# Altium schematic symbol library LC_SensorNode.SchLib: 34 symbols
Pins are listed as number, name and electrical type; pins without a type are passive.

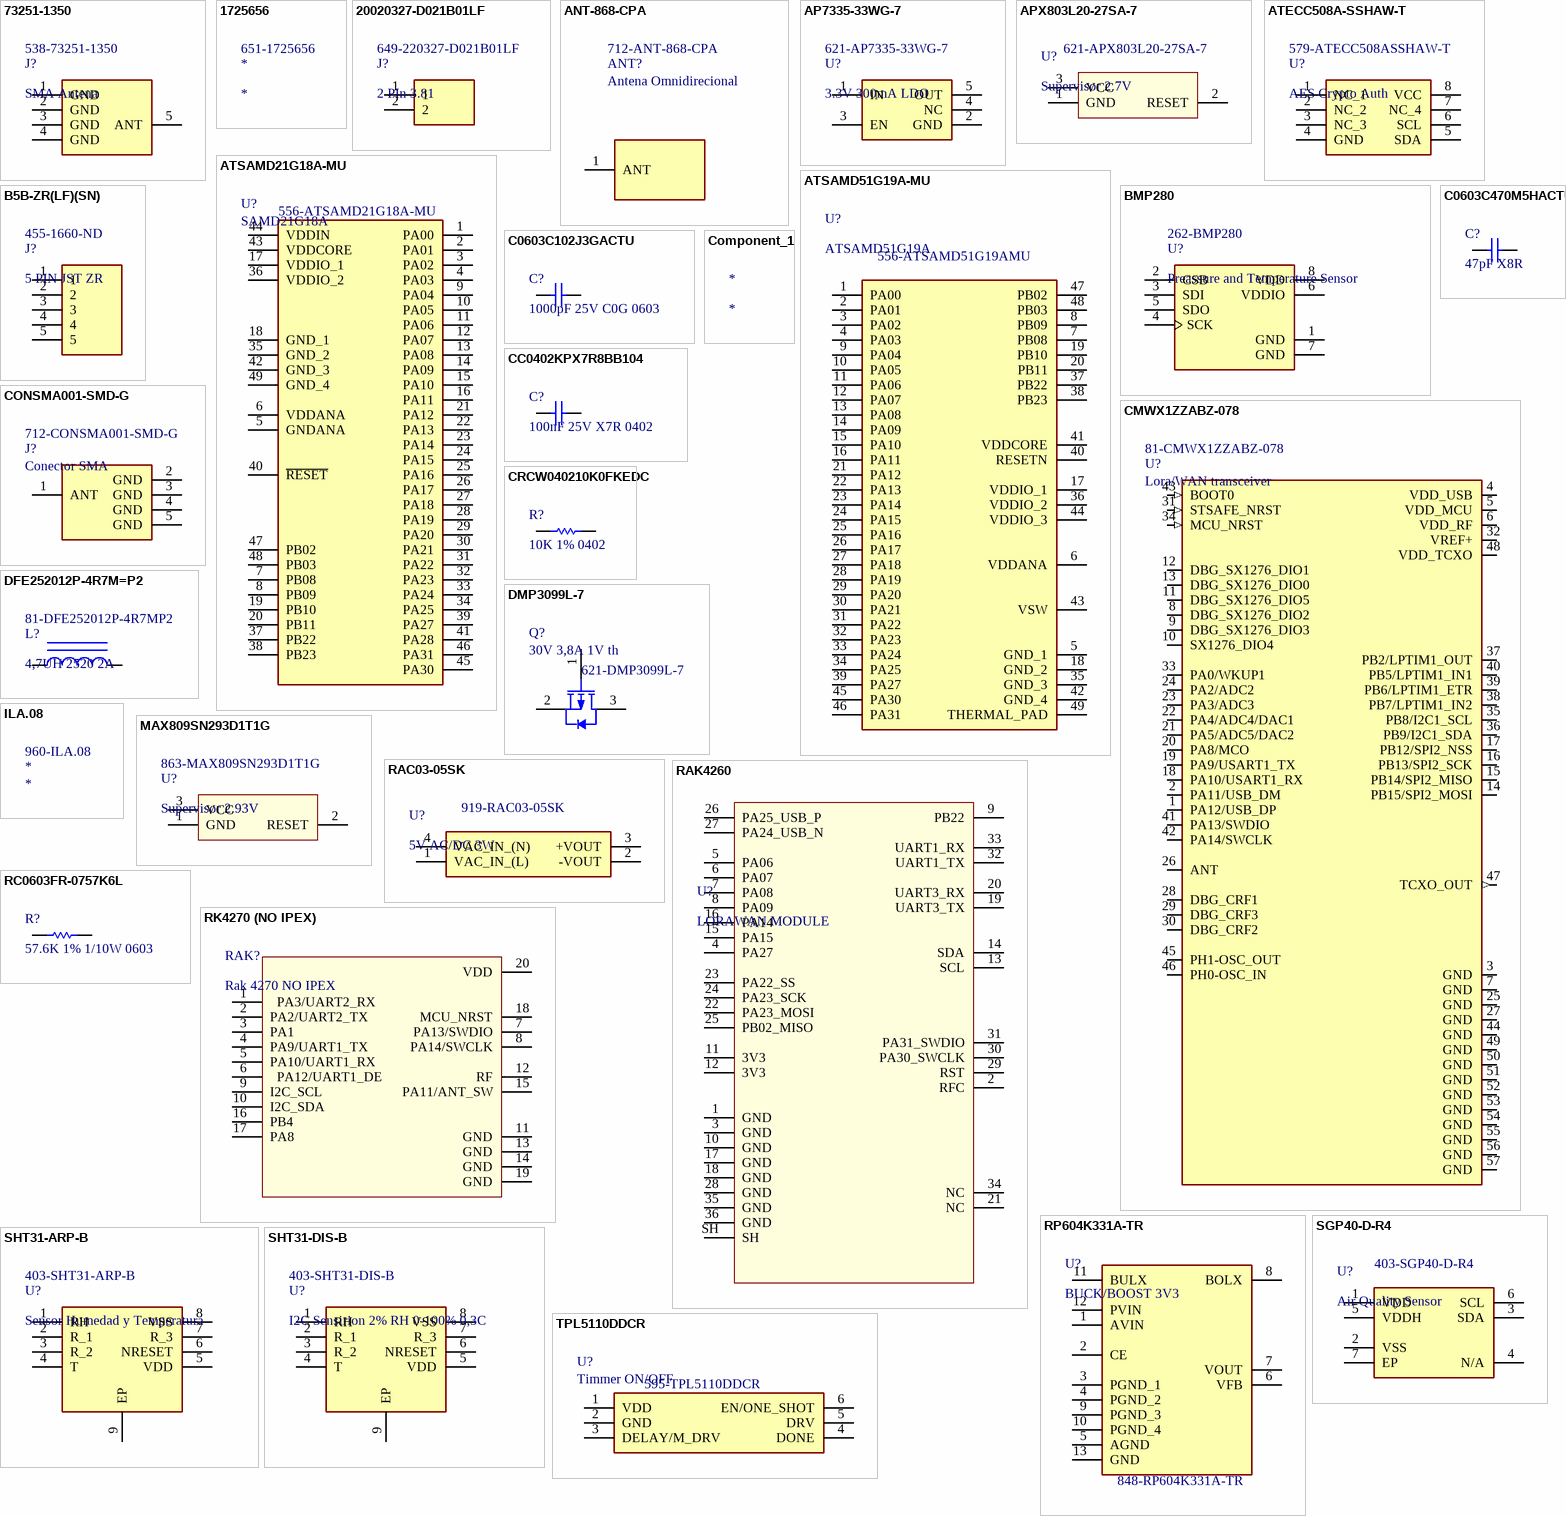
[diagram p0: symbols 73251-1350 to TPL5110DDCR]

## 73251-1350
designator J?, comment SMA Antena  Supplier Part Number 1: 538-73251-1350
MOLEX   73251-1350.   RF/COAXIAL, SMA JACK, STRAIGHT, 50 OHM, SMD; Body Plating: Gold; Body Material: Brass; Impedance: 50R; Connector Type: SMA,Coaxial; Gender: Female; Supplier 1: Mouser; Manufacturer: Molex; Manufacturer Part Number: 73251-1350; RoHS: Yes; Category: RF / Coaxial Connectors; Stock 1: 6932; Pricing 1: 1=3,73000, 10=3,29000, 50=3,29000, 100=2,60000, 500=2,53000, 1000=2,16000, 2500=2,01000, 5000=1,93000, 10000=1,86000 (USD); Case/Package: SMA; Contact Material: Copper; Contact Plating: Gold; Insulation Material: Teflon; Package Quantity: 1600; Packaging: Tray; Termination: Solder; Series: 73251; Orientation: Straight; Length: 6.35mm; Depth: 6.35mm; Radiation Hardening: No; RoHS Compliant: Yes; REACH SVHC: Unknown; Halogen Free: Low Halogen; ComponentLink1URL: https://datasheet.ciiva.com/22652/1443748-22652884.pdf?src-supplier=Element14; ComponentLink1Description: https://datasheet.ciiva.com/22652/1443748-22652884.pdf?src-supplier=Element14; ComponentLink2URL: https://datasheet.ciiva.com/5718/1716114-5718582.pdf?src-supplier=Farnell; ComponentLink2Description: https://datasheet.ciiva.com/5718/1716114-5718582.pdf?src-supplier=Farnell; ComponentLink3URL: https://datasheet.ciiva.com/23673/1763868-23673641.pdf?src-supplier=Newark; ComponentLink3Description: https://datasheet.ciiva.com/23673/1763868-23673641.pdf?src-supplier=Newark; ComponentLink4URL: https://datasheet.ciiva.com/15226/getdatasheetpartid-152891-15226055.pdf?src-supplier=Verical; ComponentLink4Description: https://datasheet.ciiva.com/15226/getdatasheetpartid-152891-15226055.pdf?src-supplier=Verical
footprint 73251-1350
pins: 1 GND, 2 GND, 3 GND, 4 GND, 5 ANT

## 1725656
designator *  Supplier Part Number 1: 651-1725656
PHOENIX CONTACT - 1725656 - Wire-To-Board Terminal Block, 2.54 mm, 2 Ways, 26 AWG, 20 AWG, 0.5 mm², Screw; Voltage Rating: 125V; Number of Contacts: 2; Max Current Rating: 6A; Number of Levels: 1; Max Supply Voltage: 63V; Connector Type: Screw,PCB,Terminal Block; Wire Gauge (Max): 26AWG; Wire Gauge (Min): 20AWG; Pitch: 2.54mm; Stripping Length: 4.5mm; Approvals: UL,CSA,cULus,EAC; Supplier 1: Mouser; Manufacturer: Phoenix Contact; Manufacturer Part Number: 1725656; RoHS: Yes; Category: Terminal Blocks; Stock 1: 10521; Pricing 1: 1=1,73000, 10=1,66000, 50=1,59000, 100=1,54000, 250=1,44000, 500=1,32000, 1000=1,22000, 2500=1,16000, 5000=1,09000, 10000=1,09000 (USD); Mount: Through Hole; Number of Pins: 2; Color: Green; Weight: 0.022575oz; Contact Material: Tin; Housing Color: Green; Housing Material: Polyamide; Insulation Material: Nylon; Termination: Solder; Package Quantity: 50; Packaging: Bulk; Voltage: 125V; Number of Rows: 1; Current Rating: 6A; Number of Positions Per Level: 2; Current: 6A; Number of Positions: 2; Orientation: Straight; Number of Poles: 2; Number of Circuits: 2; Series: MPT; Length: 5.54mm; Width: 12mm; Height: 6.2mm; Depth: 6.2mm; Wire/Cable Gauge: 26AWG; Radiation Hardening: No; Lead Free: Lead Free; Flammability Rating: UL94 V-0; RoHS Compliant: Yes; REACH SVHC: No SVHC; ComponentLink1URL: https://datasheet.ciiva.com/823/1725656-823793.pdf?src-supplier=Digi-Key; ComponentLink1Description: https://datasheet.ciiva.com/823/1725656-823793.pdf?src-supplier=Digi-Key; ComponentLink2URL: https://datasheet.ciiva.com/16071/1725656-16071846.pdf?src-supplier=Onlinecomponents.com; ComponentLink2Description: https://datasheet.ciiva.com/16071/1725656-16071846.pdf?src-supplier=Onlinecomponents.com; ComponentLink3URL: https://datasheet.ciiva.com/15169/getdatasheetpartid-199323-15169849.pdf?src-supplier=Verical; ComponentLink3Description: https://datasheet.ciiva.com/15169/getdatasheetpartid-199323-15169849.pdf?src-supplier=Verical; ComponentLink4URL: https://datasheet.ciiva.com/1120/319957-1120510.pdf?src-supplier=Farnell; ComponentLink4Description: https://datasheet.ciiva.com/1120/319957-1120510.pdf?src-supplier=Farnell; ComponentLink5URL: https://datasheet.ciiva.com/26340/788052-da-01-en-100ntklemme-1725656-250-st-26340907.pdf?src-supplier=Conrad; ComponentLink5Description: https://datasheet.ciiva.com/26340/788052-da-01-en-100ntklemme-1725656-250-st-26340907.pdf?src-supplier=Conrad

## 20020327-D021B01LF
designator J?, comment 2 PIn 3.81  Supplier Part Number 1: 649-220327-D021B01LF
AMPHENOL FCI         20020327-D021B01LF             TERMINAL BLOCK PLUGGABLE, 2 POSITION, 24-16AWG; Manufacturer: Amphenol ICC / FCI; Plating: Steel; Number of Contacts: 2; Current Rating: 10A; Voltage Rating: 300V; Number of Levels: 1; Connector Type: Screw,Terminal Block; Pitch: 3.81mm; Wire Gauge (Max): 24AWG; Wire Gauge (Min): 16AWG; Supplier 1: Mouser; Manufacturer Part Number: 20020327-D021B01LF; RoHS: Yes; Category: Terminal Blocks; Stock 1: 4026; Pricing 1: 1=0,44000, 10=0,38300, 50=0,33900, 100=0,33200, 1000=0,24000, 10000=0,17900 (USD); Mount: Through Hole; Housing Color: Green; Color: Green; Contact Plating: Tin; Contact Material: Brass,Steel,Copper Alloy; Material: Nylon; Housing Material: Thermoplastic; Min Operating Temperature: -40°C; Max Operating Temperature: 115°C; Number of Rows: 1; Termination: Solder; Orientation: Straight; Package Quantity: 1400; Packaging: Bulk; Max Supply Voltage: 300V; Number of Positions: 2; Number of Positions Per Level: 2; Current: 10A; Voltage: 300V; Number of Poles: 2; Contact Type: SCREW; Series: 26-381; Number of Ways: 2; Length: 8.02mm; Wire/Cable Gauge: 16AWG; Depth: 7.4mm; Radiation Hardening: No; REACH SVHC: No SVHC; Lead Free: Lead Free; RoHS Compliant: Yes; ComponentLink1URL: https://datasheet.ciiva.com/11757/0900766b80e53f68-11757695.pdf?src-supplier=RSComponents; ComponentLink1Description: https://datasheet.ciiva.com/11757/0900766b80e53f68-11757695.pdf?src-supplier=RSComponents; ComponentLink2URL: https://datasheet.ciiva.com/823/20020327-823586.pdf?src-supplier=Digi-Key; ComponentLink2Description: https://datasheet.ciiva.com/823/20020327-823586.pdf?src-supplier=Digi-Key; ComponentLink3URL: https://datasheet.ciiva.com/7980/20020327-7980415.pdf?src-supplier=Element14; ComponentLink3Description: https://datasheet.ciiva.com/7980/20020327-7980415.pdf?src-supplier=Element14; ComponentLink4URL: https://datasheet.ciiva.com/9374/20020327-9374156.pdf?src-supplier=Avnet; ComponentLink4Description: https://datasheet.ciiva.com/9374/20020327-9374156.pdf?src-supplier=Avnet; ComponentLink5URL: https://datasheet.ciiva.com/16676/20020327-16676344.pdf?src-supplier=Avnet+Europe; ComponentLink5Description: https://datasheet.ciiva.com/16676/20020327-16676344.pdf?src-supplier=Avnet+Europe
footprint 20020327D021B01LF
pins: 1, 2

## ANT-868-CPA
designator ANT?, comment Antena Omnidirecional  Supplier Part Number 1: 712-ANT-868-CPA
Antenas 868 MHz Directional RHCP Adhesive Ceramic Patch Antenna ISM LPWA; Manufacturer 1: Linx; Manufacturer Part Number 1: ANT-868-CPA; Supplier 1: Mouser; RoHS: No; Category: RF Antennas; Stock 1: 383; Pricing 1: 1=2,92000, 10=2,79000, 25=2,61000, 100=2,51000, 250=2,41000, 500=2,39000 (USD)
footprint ANT868CPA
pins: 1 ANT

## AP7335-33WG-7
designator U?, comment 3.3V 300mA LDO  Supplier Part Number 1: 621-AP7335-33WG-7
LDO Regulator Pos 3.3V 0.3A 5-Pin SOT-25 T/R; Manufacturer: Diodes; Manufacturer Part Number: AP7335-33WG-7; Number of Outputs: 1; Min Input Voltage: 2V; Max Input Voltage: 6V; Output Type: Fixed; Accuracy: 2%; Polarity: Positive; Quiescent Current: 80uA; Dropout Voltage: 150mV; Min Current Limit: 400mA; Power Supply Rejection Ratio (PSRR): 65dB; Supplier 1: Mouser; RoHS: Yes; Category: Voltage Regulators - Linear; Stock 1: 2288; Mount: Surface Mount; Case/Package: SOT-25; Number of Pins: 5; Min Operating Temperature: -40°C; Max Operating Temperature: 85°C; Max Output Current: 300mA; Output Voltage: 3.3V; Packaging: Tape and Reel; Output Current: 300mA; Package Quantity: 3000; Number of Regulators: 1; Radiation Hardening: No; REACH SVHC: No SVHC; ComponentLink1URL: https://datasheet.ciiva.com/26856/getdatasheetpartid-661856-26856385.pdf?src-supplier=Verical; ComponentLink1Description: https://datasheet.ciiva.com/26856/getdatasheetpartid-661856-26856385.pdf?src-supplier=Verical; ComponentLink2URL: https://datasheet.ciiva.com/17365/ap7335-17365717.pdf?src-supplier=Avnet+Europe; ComponentLink2Description: https://datasheet.ciiva.com/17365/ap7335-17365717.pdf?src-supplier=Avnet+Europe
footprint SOT95P285X145-5N
pins: 1 IN, 2 GND, 3 EN, 4 NC, 5 OUT

## APX803L20-27SA-7
designator U?, comment Supervisor 2.7V  Supplier Part Number 1: 621-APX803L20-27SA-7
Circuitos de vigilancia 2.7V, 220ms Reset Ge nerator; Manufacturer: Diodes; Manufacturer Part Number: APX803L20-27SA-7; Reset: Active Low; Number of Voltages Monitored: 1; Reset Timeout: 143ms; Supplier 1: Mouser; RoHS: Yes; Category: Voltage Supervisors; Stock 1: 5390; Mount: Surface Mount; Case/Package: TO-236-3; Min Operating Temperature: -40°C; Max Operating Temperature: 85°C; Type: Simple Reset/Power-On Reset; Packaging: Tape and Reel; Threshold Voltage: 2.7V; RoHS Compliant: Yes; ComponentLink1URL: https://www.diodes.com/assets/Datasheets/APX803L.pdf?src-supplier=Digi-Key; ComponentLink1Description: https://www.diodes.com/assets/Datasheets/APX803L.pdf?src-supplier=Digi-Key
footprint SOT-23-3 (SOT23, 3-Leads, Body 2.92x1.3mm, Pitch 0.95mm)
pins: 1 GND, 2 RESET, 3 VCC

## ATECC508A-SSHAW-T
designator U?, comment AES Crypto Auth  Supplier Part Number 1: 579-ATECC508ASSHAW-T
IC AUTHENTICATION CHIP 8SOIC; Manufacturer: Microchip; Manufacturer Part Number: ATECC508A-SSHAW-T; Supplier 1: Mouser; RoHS: No; Category: EEPROM; Stock 1: 2203; ComponentLink1URL: http://www.microchip.com/mymicrochip/filehandler.aspx?ddocname=en603815&src-supplier=Digi-Key; ComponentLink1Description: http://www.microchip.com/mymicrochip/filehandler.aspx?ddocname=en603815&src-supplier=Digi-Key
footprint SOIC127P600X175-8N
pins: 1 NC_1, 2 NC_2, 3 NC_3, 4 GND, 5 SDA, 6 SCL, 7 NC_4, 8 VCC

## ATSAMD21G18A-MU
designator U?, comment SAMD21G18A  Supplier Part Number 1: 556-ATSAMD21G18A-MU
MICROCHIP - ATSAMD21G18A-MU - ARM MCU, SAM D Series, SAM32 Family SAM D2X Series Microcontrollers, ARM Cortex-M0+, 32bit, 48 MHz; Supplier 1: Mouser; Manufacturer 1: Microchip; Manufacturer Part Number 1: ATSAMD21G18A-MU; RoHS: No; Category: Microcontrollers; Stock 1: 1648; Pricing 1: 1=3,00000, 10=3,00000, 25=2,72000, 100=2,47000, 250=2,47000, 500=2,47000 (USD); ComponentLink1URL: http://www.farnell.com/datasheets/2047956.pdf?src-supplier=Farnell; ComponentLink1Description: http://www.farnell.com/datasheets/2047956.pdf?src-supplier=Farnell; ComponentLink2URL: http://www.farnell.com/datasheets/2047956.pdf?src-supplier=Newark; ComponentLink2Description: http://www.farnell.com/datasheets/2047956.pdf?src-supplier=Newark; ComponentLink3URL: http://www.microchip.com/mymicrochip/filehandler.aspx?ddocname=en605774&src-supplier=Digi-Key; ComponentLink3Description: http://www.microchip.com/mymicrochip/filehandler.aspx?ddocname=en605774&src-supplier=Digi-Key
footprint QFN50P700X700X90-49N-D
pins: 1 PA00, 2 PA01, 3 PA02, 4 PA03, 5 GNDANA, 6 VDDANA, 7 PB08, 8 PB09, 9 PA04, 10 PA05, 11 PA06, 12 PA07, 13 PA08, 14 PA09, 15 PA10, 16 PA11, 17 VDDIO_1, 18 GND_1, 19 PB10, 20 PB11, 21 PA12, 22 PA13, 23 PA14, 24 PA15, 25 PA16, 26 PA17, 27 PA18, 28 PA19, 29 PA20, 30 PA21, 31 PA22, 32 PA23, 33 PA24, 34 PA25, 35 GND_2, 36 VDDIO_2, 37 PB22, 38 PB23, 39 PA27, 40 ~{RESET}, 41 PA28, 42 GND_3, 43 VDDCORE, 44 VDDIN, 45 PA30, 46 PA31, 47 PB02, 48 PB03, 49 GND_4

## ATSAMD51G19A-MU
designator U?, comment ATSAMD51G19A  Supplier Part Number 1: 556-ATSAMD51G19AMU
IC MCU 32BIT 512KB FLASH 48VQFN; Manufacturer: Microchip; Manufacturer Part Number: ATSAMD51G19A-MU; Supplier 1: Mouser; RoHS: No; Category: Microcontrollers; Stock 1: 1027; ComponentLink1URL: http://www.farnell.com/datasheets/2339602.pdf?src-supplier=Farnell; ComponentLink1Description: http://www.farnell.com/datasheets/2339602.pdf?src-supplier=Farnell; ComponentLink2URL: http://www.microchip.com/mymicrochip/filehandler.aspx?ddocname=en599588&src-supplier=Digi-Key; ComponentLink2Description: http://www.microchip.com/mymicrochip/filehandler.aspx?ddocname=en599588&src-supplier=Digi-Key
footprint QFN50P700X700X90-49N-D
pins: 1 PA00, 2 PA01, 3 PA02, 4 PA03, 5 GND_1, 6 VDDANA, 7 PB08, 8 PB09, 9 PA04, 10 PA05, 11 PA06, 12 PA07, 13 PA08, 14 PA09, 15 PA10, 16 PA11, 17 VDDIO_1, 18 GND_2, 19 PB10, 20 PB11, 21 PA12, 22 PA13, 23 PA14, 24 PA15, 25 PA16, 26 PA17, 27 PA18, 28 PA19, 29 PA20, 30 PA21, 31 PA22, 32 PA23, 33 PA24, 34 PA25, 35 GND_3, 36 VDDIO_2, 37 PB22, 38 PB23, 39 PA27, 40 RESETN, 41 VDDCORE, 42 GND_4, 43 VSW, 44 VDDIO_3, 45 PA30, 46 PA31, 47 PB02, 48 PB03, 49 THERMAL_PAD

## B5B-ZR(LF)(SN)
designator J?, comment 5 PIN JST ZR  Supplier Part Number 1: 455-1660-ND
CONN HEADER VERT 5POS 1.5MM; Manufacturer Part Number: B5B-ZR(LF)(SN); Gender: Male; Connector Type: Male Pin; Current Rating: 1A; Number of Positions: 5; Insulation Resistance: 500MR; Contact Resistance: 30mR; Voltage Rating: 50V; Supplier 1: Digi-Key; Manufacturer: JST; RoHS: Yes; Category: Connectors; Stock 1: 124471; Pricing 1: 1=0,26000, 10=0,23900, 100=0,16590, 500=0,14038, 1000=0,11486, 5000=0,10209, 10000=0,09252 (USD); Mount: Through Hole; Contact Material: Brass,Tin; Color: Natural; Contact Plating: Tin,Copper; Housing Material: Polyamide; Housing Color: Beige; Material: Polyamide; Min Operating Temperature: -25°C; Max Operating Temperature: 85°C; Number of Rows: 1; Packaging: Bulk; Termination: Press-Fit; Number of Contacts: 5; Fastening Type: Detent; Orientation: Straight; Max Current Rating: 1A; Max Voltage Rating (AC): 50V; Length: 9mm; Pitch: 1.5mm; Contact Mating Length: 0.094inch; Depth: 3.5mm; Lead Free: Lead Free; ComponentLink1URL: https://datasheet.ciiva.com/26894/getdatasheetpartid-666189-26894482.pdf?src-supplier=Verical; ComponentLink1Description: https://datasheet.ciiva.com/26894/getdatasheetpartid-666189-26894482.pdf?src-supplier=Verical; ComponentLink2URL: https://datasheet.ciiva.com/25616/0900766b81147f94-25616837.pdf?src-supplier=RSComponents; ComponentLink2Description: https://datasheet.ciiva.com/25616/0900766b81147f94-25616837.pdf?src-supplier=RSComponents; ComponentLink3URL: https://datasheet.ciiva.com/11752/0900766b8082f580-11752184.pdf?src-supplier=RSComponents; ComponentLink3Description: https://datasheet.ciiva.com/11752/0900766b8082f580-11752184.pdf?src-supplier=RSComponents; ComponentLink4URL: https://datasheet.ciiva.com/712/ezh-712496.pdf?src-supplier=Digi-Key; ComponentLink4Description: https://datasheet.ciiva.com/712/ezh-712496.pdf?src-supplier=Digi-Key
footprint SHDR5W50P0X150_1X5_900X350X450P
pins: 1, 2, 3, 4, 5

## BMP280
designator U?, comment Preassure and Temperature Sensor  Supplier Part Number 1: 262-BMP280
BMP280 Absolute Barometric Pressure Sensor for Battery Powered Devices 2 x 2.5mm; Manufacturer: Bosch; Output Type: SPI,I2C; Operating Pressure: 15.95PSI; Port Style: No Port; Max Pressure: 290.08PSI; Supplier 1: Mouser; Manufacturer Part Number: BMP280; RoHS: No; Category: Pressure Sensors; Stock 1: 16446; Case/Package: SMD/SMT; Number of Pins: 8; Min Operating Temperature: -40°C; Max Operating Temperature: 85°C; Pressure Type: Absolute; Termination: SMD/SMT; Lead Free: Lead Free; ComponentLink1URL: https://ae-bst.resource.bosch.com/media/_tech/media/datasheets/BST-BMP280-DS001.pdf?src-supplier=Digi-Key; ComponentLink1Description: https://ae-bst.resource.bosch.com/media/_tech/media/datasheets/BST-BMP280-DS001.pdf?src-supplier=Digi-Key
footprint XDCR_BMP280
pins: 1 GND (power), 2 CSB, 3 SDI, 4 SCK, 5 SDO, 6 VDDIO (power), 7 GND (power), 8 VDD (power)

## C0603C102J3GACTU
designator C?, comment 1000pF 25V C0G 0603
KEMET         C0603C102J3GACTU.             CERAMIC CAPACITOR 1000PF 25V, C0G, 5%, 0603; Capacitance: 1nF; Temperature Coefficient: 30ppm/°C; Supplier 1: Mouser; Manufacturer: KEMET; Manufacturer Part Number: C0603C102J3GACTU; RoHS: Yes; Category: Ceramic Capacitors; Stock 1: 42794; Mount: Surface Mount; Case/Package: 0603; Number of Pins: 2; Case Code (Imperial): 0603; Case Code (Metric): 1608; Contact Plating: Tin,Matte; Dielectric Material: Ceramic; Min Operating Temperature: -55°C; Max Operating Temperature: 125°C; Packaging: Tape and Reel; Package Quantity: 1; Tolerance: 5%; Voltage Rating: 25V; Voltage Rating (DC): 25V; Dielectric: C0G; Termination: SMD/SMT; Voltage: 25V; Length: 1.6mm; Height: 0.8mm; Width: 0.031inch; Lead Pitch: 0.7mm; Thickness: 0.034inch; Depth: 0.8mm; Radiation Hardening: No; REACH SVHC: No SVHC; Lead Free: Lead Free; ComponentLink1URL: https://datasheet.ciiva.com/18192/getdatasheetpartid-127803-18192629.pdf?src-supplier=Verical; ComponentLink1Description: https://datasheet.ciiva.com/18192/getdatasheetpartid-127803-18192629.pdf?src-supplier=Verical; ComponentLink2URL: https://datasheet.ciiva.com/7823/f9080b-0402-series-c0g-7823966.pdf?src-supplier=Element14; ComponentLink2Description: https://datasheet.ciiva.com/7823/f9080b-0402-series-c0g-7823966.pdf?src-supplier=Element14; ComponentLink3URL: https://datasheet.ciiva.com/7823/f9080b-0402-series-c0g-7823967.pdf?src-supplier=Element14; ComponentLink3Description: https://datasheet.ciiva.com/7823/f9080b-0402-series-c0g-7823967.pdf?src-supplier=Element14; Supplier Part Number 1: 80-C0603C102J3G
footprint C 0603/1608
pins: 1, 2

## C0603C470M5HACTU
designator C?, comment 47pF X8R
Condensadores de cerámica multicapa (MLCC- SMD/SMT) 50V 47pF X8R 0603 20 % /; Manufacturer: KEMET; Manufacturer Part Number: C0603C470M5HACTU; Supplier 1: Mouser; RoHS: Yes; Category: Ceramic Capacitors; Stock 1: 29354; RoHS Compliant: Yes; Supplier Part Number 1: 80-C0603C470M5HACTU
footprint C 0603/1608
pins: 1, 2

## CC0402KPX7R8BB104
designator C?, comment 100nF 25V X7R 0402
Cap Ceramic 0.1uF 25V X7R 10% SMD 0402 125°C Paper T/R; Manufacturer: Yageo; Manufacturer Part Number: CC0402KPX7R8BB104; Supplier 1: Mouser; RoHS: No; Category: Ceramic Capacitors; Stock 1: 63784; Case/Package: 0402; Voltage Rating (DC): 25V; Dielectric: X7R; Tolerance: 10%; Capacitance: 100nF; Lead Free: Lead Free; Halogen Free: Halogen Free; Supplier Part Number 1: 603-CC0402KPX78BB104
footprint C0402/1005
pins: 1, 2

## CMWX1ZZABZ-078
designator U?, comment Lora/WAN transceiver  Supplier Part Number 1: 81-CMWX1ZZABZ-078
LoRa Wireless Module T/R; Manufacturer 1: Murata; Manufacturer Part Number 1: CMWX1ZZABZ-078; Interface: I2C,SPI,USB,UART; Frequency: 915MHz; Sensitivity: -133dBm; Current - Receiving: 23mA; Current - Transmitting: 106mA; Supplier 1: Mouser; RoHS: No; Category: RF Receivers, Transceivers; Stock 1: 867; Pricing 1: 1=15,75000, 10=14,25000, 25=13,13000, 100=12,00000, 250=11,25000, 500=10,72000 (USD); Mount: Surface Mount; Case/Package: Module; Min Operating Temperature: -40°C; Max Operating Temperature: 85°C; Packaging: Cut Tape; ComponentLink1URL: https://wireless.murata.com/RFM/data/type_abz.pdf?src-supplier=Digi-Key; ComponentLink1Description: https://wireless.murata.com/RFM/data/type_abz.pdf?src-supplier=Digi-Key
footprint XCVR_CMWX1ZZABZ-078 (Footprint not found)
pins: 1 PA12/USB_DP (io), 2 PA11/USB_DM (io), 3 GND (power), 4 VDD_USB (power), 5 VDD_MCU (power), 6 VDD_RF (power), 7 GND (power), 8 DBG_SX1276_DIO2 (io), 9 DBG_SX1276_DIO3 (io), 10 SX1276_DIO4 (io), 11 DBG_SX1276_DIO5 (io), 12 DBG_SX1276_DIO1 (io), 13 DBG_SX1276_DIO0 (io), 14 PB15/SPI2_MOSI (io), 15 PB14/SPI2_MISO (io), 16 PB13/SPI2_SCK (io), 17 PB12/SPI2_NSS (io), 18 PA10/USART1_RX (io), 19 PA9/USART1_TX (io), 20 PA8/MCO (io), 21 PA5/ADC5/DAC2 (io), 22 PA4/ADC4/DAC1 (io), 23 PA3/ADC3 (io), 24 PA2/ADC2 (io), 25 GND (power), 26 ANT (io), 27 GND (power), 28 DBG_CRF1 (io), 29 DBG_CRF3 (io), 30 DBG_CRF2 (io), 31 STSAFE_NRST (in), 32 VREF+ (power), 33 PA0/WKUP1 (io), 34 MCU_NRST (in), 35 PB8/I2C1_SCL (io), 36 PB9/I2C1_SDA (io), 37 PB2/LPTIM1_OUT (io), 38 PB7/LPTIM1_IN2 (io), 39 PB6/LPTIM1_ETR (io), 40 PB5/LPTIM1_IN1 (io), 41 PA13/SWDIO (io), 42 PA14/SWCLK (io), 43 BOOT0 (in), 44 GND (power), 45 PH1-OSC_OUT (io), 46 PH0-OSC_IN (io), 47 TCXO_OUT (out), 48 VDD_TCXO (power), 49 GND (power), 50 GND (power), 51 GND (power), 52 GND (power), 53 GND (power), 54 GND (power), 55 GND (power), 56 GND (power), 57 GND (power)

## Component_1
designator *

## CONSMA001-SMD-G
designator J?, comment Conector SMA  Supplier Part Number 1: 712-CONSMA001-SMD-G
50 Ohm Gold Plated Female PCB Mount SMA Connector; Manufacturer 1: Linx; Manufacturer Part Number 1: CONSMA001-SMD-G; Dielectric Material: PTFE; Body Material: Brass; Impedance: 50R; Connector Type: SMA,Socket; Supplier 1: Mouser; RoHS: Yes; Category: RF / Coaxial Connectors; Stock 1: 9215; Pricing 1: 1=3,20000, 10=3,04000, 25=2,89000, 100=2,76000, 250=2,64000, 500=2,39000 (USD); Mount: Surface Mount; Case/Package: SMA; Contact Plating: Gold; Contact Material: Copper; Body Plating: Gold; Housing Color: Gold; Shell Plating: Gold; Plating: Gold; Min Operating Temperature: -65°C; Max Operating Temperature: 165°C; Package Quantity: 100; Packaging: Bulk; Gender: Female; Fastening Type: Threaded; Orientation: Vertical; Termination: Solder; Lead Free: Lead Free; ComponentLink1URL: https://datasheet.ciiva.com/24094/consma001-smd-21851-24094406.pdf?src-supplier=Mouser; ComponentLink1Description: https://datasheet.ciiva.com/24094/consma001-smd-21851-24094406.pdf?src-supplier=Mouser; ComponentLink2URL: https://datasheet.ciiva.com/29191/consma001-smd-g-29191144.pdf?src-supplier=Digi-Key; ComponentLink2Description: https://datasheet.ciiva.com/29191/consma001-smd-g-29191144.pdf?src-supplier=Digi-Key
footprint CONSMA001-SMD-G
pins: 1 ANT, 2 GND, 3 GND, 4 GND, 5 GND

## CRCW040210K0FKEDC
designator R?, comment 10K 1% 0402
D10/CRCW0402-C 100 10K 1% ET7; Manufacturer: Vishay; Manufacturer Part Number: CRCW040210K0FKEDC; Temperature Coefficient: 100ppm/°C; Power Rating: 62.5mW; Resistance: 10kR; Supplier 1: Mouser; RoHS: Yes; Category: Resistors; Stock 1: 1262468; Mount: Surface Mount; Case/Package: Molded; Contact Plating: Tin; Min Operating Temperature: -55°C; Max Operating Temperature: 155°C; Termination: Wraparound; Tolerance: 1%; Resistor Type: Thick Film; Length: 1mm; Lead Free: Lead Free; ComponentLink1URL: http://www.farnell.com/datasheets/2618784.pdf?src-supplier=Farnell; ComponentLink1Description: http://www.farnell.com/datasheets/2618784.pdf?src-supplier=Farnell; ComponentLink2URL: http://www.farnell.com/datasheets/2618784.pdf?src-supplier=Element14; ComponentLink2Description: http://www.farnell.com/datasheets/2618784.pdf?src-supplier=Element14; ComponentLink3URL: http://www.farnell.com/datasheets/2618784.pdf?src-supplier=Newark; ComponentLink3Description: http://www.farnell.com/datasheets/2618784.pdf?src-supplier=Newark; ComponentLink4URL: http://www.vishay.com/docs/28773/crcwce3.pdf?src-supplier=Digi-Key; ComponentLink4Description: http://www.vishay.com/docs/28773/crcwce3.pdf?src-supplier=Digi-Key; ComponentLink5URL: http://www.vishay.com/docs/20035/dcrcwe3.pdf?src-supplier=Avnet; ComponentLink5Description: http://www.vishay.com/docs/20035/dcrcwe3.pdf?src-supplier=Avnet; Supplier Part Number 1: 71-CRCW040210K0FKEDC
footprint R0402/1005
pins: 1, 2

## DFE252012P-4R7M=P2
designator L?, comment 4,7UH 2520 2A  Supplier Part Number 1: 81-DFE252012P-4R7MP2
FIXED IND 4.7UH 2A 200 MOHM SMD; Manufacturer: Murata; Manufacturer Part Number: DFE252012P-4R7M=P2; Core Material: Ferrite; Shielding: Shielded; DC Resistance (DCR): 200mR; Test Frequency: 1MHz; Max DC Current: 1.4A; Tolerance: 20%; Supplier 1: Mouser; RoHS: Yes; Category: Fixed Inductors; Stock 1: 343; Mount: Surface Mount; Case/Package: 1008; Case Code (Imperial): 1008; Case Code (Metric): 2520; Min Operating Temperature: -40°C; Max Operating Temperature: 125°C; Inductance: 4.7uH; Packaging: Tape and Reel; Resistor Type: Wirewound,Metal Alloy; Current Rating: 2A; Length: 0.098inch; Width: 0.079inch; Height - Seated (Max): 0.047inch; Depth: 2mm; ComponentLink1URL: http://www.farnell.com/datasheets/2550138.pdf?src-supplier=Farnell; ComponentLink1Description: http://www.farnell.com/datasheets/2550138.pdf?src-supplier=Farnell; ComponentLink2URL: http://www.toko.co.jp/products/pdf/inductors/dfe252012p.pdf?src-supplier=Avnet; ComponentLink2Description: http://www.toko.co.jp/products/pdf/inductors/dfe252012p.pdf?src-supplier=Avnet; ComponentLink3URL: http://www.farnell.com/datasheets/2550138.pdf?src-supplier=Newark; ComponentLink3Description: http://www.farnell.com/datasheets/2550138.pdf?src-supplier=Newark; ComponentLink4URL: http://www.murata.com/~/media/webrenewal/products/inductor/chip/tokoproducts/wirewoundmetalalloychiptype/m_dfe252012p.ashx?src-supplier=Digi-Key; ComponentLink4Description: http://www.murata.com/~/media/webrenewal/products/inductor/chip/tokoproducts/wirewoundmetalalloychiptype/m_dfe252012p.ashx?src-supplier=Digi-Key; ComponentLink5URL: https://www.murata.com/~/media/webrenewal/products/inductor/chip/tokoproducts/wirewoundmetalalloychiptype/m_dfe252012p.ashx?src-supplier=Digi-Key; ComponentLink5Description: https://www.murata.com/~/media/webrenewal/products/inductor/chip/tokoproducts/wirewoundmetalalloychiptype/m_dfe252012p.ashx?src-supplier=Digi-Key
footprint DFE2HCAH1R0MJ0L
pins: 1, 2

## DMP3099L-7
designator Q?, comment 30V 3,8A 1V th  Supplier Part Number 1: 621-DMP3099L-7
DIODES INC. - DMP3099L-7 - Power MOSFET, P Channel, 30 V, 3.8 A, 0.065 ohm, SOT-23, Surface Mount; Rds On Max: 65mR; Input Capacitance: 563pF; Drain to Source Voltage (Vdss): -30V; Continuous Drain Current (ID): 3.8A; Max Power Dissipation: 1.08W; Element Configuration: Single; Gate to Source Voltage (Vgs): 20V; Number of Channels: 1; Rise Time: 5ns; Turn-On Delay Time: 4.8ns; Turn-Off Delay Time: 31ns; Fall Time: 15ns; Threshold Voltage: -2.1V; Supplier 1: Mouser; Manufacturer 1: Diodes; Manufacturer Part Number 1: DMP3099L-7; RoHS: Yes; Category: MOSFETs; Stock 1: 268217; Pricing 1: 1=0,33000, 10=0,21000, 100=0,11500, 500=0,09000, 1000=0,06900, 3000=0,05400 (USD); Mount: Surface Mount; Case/Package: SOT-23; Number of Pins: 3; Weight: 0.000282oz; Contact Plating: Tin,Matte; Min Operating Temperature: -55°C; Max Operating Temperature: 150°C; Package Quantity: 3000; Packaging: Tape and Reel; Drain to Source Resistance: 65mR; Length: 3mm; Height: 1.1mm; Width: 1.4mm; Radiation Hardening: No; REACH SVHC: No SVHC; Lead Free: Lead Free; ComponentLink1URL: http://www.mouser.com/ds/2/115/DMP3099L-266220.pdf?src-supplier=Mouser; ComponentLink1Description: http://www.mouser.com/ds/2/115/DMP3099L-266220.pdf?src-supplier=Mouser; ComponentLink2URL: http://www.alliedelec.com/m/d/a7453f83181edfde31570147b9d1ef2f.pdf?src-supplier=Allied+Electronics; ComponentLink2Description: http://www.alliedelec.com/m/d/a7453f83181edfde31570147b9d1ef2f.pdf?src-supplier=Allied+Electronics; ComponentLink3URL: http://www.farnell.com/datasheets/2040103.pdf?src-supplier=Farnell; ComponentLink3Description: http://www.farnell.com/datasheets/2040103.pdf?src-supplier=Farnell; ComponentLink4URL: http://www.farnell.com/datasheets/2040103.pdf?src-supplier=Newark; ComponentLink4Description: http://www.farnell.com/datasheets/2040103.pdf?src-supplier=Newark; ComponentLink5URL: http://www.diodes.com/datasheets/DMP3099L.pdf?src-supplier=Avnet; ComponentLink5Description: http://www.diodes.com/datasheets/DMP3099L.pdf?src-supplier=Avnet; ComponentLink6URL: http://www.diodes.com/datasheets/DMP3099L.pdf?src-supplier=Avnet+Asia; ComponentLink6Description: http://www.diodes.com/datasheets/DMP3099L.pdf?src-supplier=Avnet+Asia; ComponentLink7URL: https://www.diodes.com/assets/Datasheets/DMP3099L.pdf?src-supplier=Digi-Key; ComponentLink7Description: https://www.diodes.com/assets/Datasheets/DMP3099L.pdf?src-supplier=Digi-Key; ComponentLink8URL: http://www.farnell.com/datasheets/2040103.pdf?src-supplier=Element14; ComponentLink8Description: http://www.farnell.com/datasheets/2040103.pdf?src-supplier=Element14; ComponentLink9URL: http://www.diodes.com/datasheets/DMP3099L.pdf?src-supplier=Digi-Key; ComponentLink9Description: http://www.diodes.com/datasheets/DMP3099L.pdf?src-supplier=Digi-Key
footprint SOT96P240X120-3N
pins: 1 G, 2 S, 3 D

## ILA.08
designator *  Supplier Part Number 1: 960-ILA.08
5*3*0.5mm ILA.08 868MHz Ceramic Loop Antenna, NCNR, Packaging: Tape and Reel, Dimensions: 5*3*0.5mm; Manufacturer 1: Taoglas; Number of Bands: 1; Return Loss: -10dB; Max Power Dissipation: 10W; Supplier 1: Mouser; Manufacturer Part Number 1: ILA.08; RoHS: No; Category: RF Antennas; Stock 1: 72; Pricing 1: 1=5,09000, 100=4,69000, 500=3,95000, 1000=3,21000, 5000=1,59000 (USD); Mount: Surface Mount; Packaging: Cut Tape; Termination: Solder; ComponentLink1URL: http://www.farnell.com/datasheets/2647030.pdf?src-supplier=Farnell; ComponentLink1Description: http://www.farnell.com/datasheets/2647030.pdf?src-supplier=Farnell; ComponentLink2URL: http://cdn.taoglas.com/datasheets/ILA.08.pdf?src-supplier=Digi-Key; ComponentLink2Description: http://cdn.taoglas.com/datasheets/ILA.08.pdf?src-supplier=Digi-Key; ComponentLink3URL: http://www.farnell.com/datasheets/2647030.pdf?src-supplier=Newark; ComponentLink3Description: http://www.farnell.com/datasheets/2647030.pdf?src-supplier=Newark

## MAX809SN293D1T1G
designator U?, comment Supervisor 2.93V  Supplier Part Number 1: 863-MAX809SN293D1T1G
Processor Supervisor 2.93V 1.2V to 4.9V 3-Pin SOT-23 T/R; Manufacturer: ON Semiconductor; Manufacturer Part Number: MAX809SN293D1T1G; Max Supply Voltage: 5.5V; Watchdog Timer: No; Max Reset Threshold Voltage: 2.96V; Min Reset Threshold Voltage: 2.89V; Nominal Supply Current: 2.5uA; Number of Voltages Monitored: 1; Operating Supply Current: 800nA; Reset: Active Low; Reset Timeout: 1ms; Output Type: PUSH-PULL; Output: TOTEM-POLE; Supplier 1: Mouser; RoHS: Yes; Category: Voltage Supervisors; Stock 1: 874; Mount: Surface Mount; Case/Package: SOT-23; Number of Pins: 3; Min Operating Temperature: -40°C; Max Operating Temperature: 105°C; Min Supply Voltage: 1.2V; Package Quantity: 3000; Packaging: Tape and Reel; Overvoltage Threshold: 2.96V; Undervoltage Threshold: 2.93V; Threshold Voltage: 2.93V; Number of Elements: 1; Type: Simple Reset/Power-On Reset; Supply Current: 2.5uA; Length: 3.04mm; Width: 1.4mm; Height: 1.01mm; Radiation Hardening: No; REACH SVHC: No SVHC; Lead Free: Lead Free; Halogen Free: Halogen Free; RoHS Compliant: Yes; ComponentLink1URL: https://datasheet.ciiva.com/6600/max809s-d-6600201.pdf?src-supplier=Digi-Key; ComponentLink1Description: https://datasheet.ciiva.com/6600/max809s-d-6600201.pdf?src-supplier=Digi-Key; ComponentLink2URL: https://datasheet.ciiva.com/6600/max809s-d-6600202.pdf?src-supplier=Digi-Key; ComponentLink2Description: https://datasheet.ciiva.com/6600/max809s-d-6600202.pdf?src-supplier=Digi-Key; ComponentLink3URL: https://datasheet.ciiva.com/6600/max809s-d-6600203.pdf?src-supplier=Digi-Key; ComponentLink3Description: https://datasheet.ciiva.com/6600/max809s-d-6600203.pdf?src-supplier=Digi-Key; ComponentLink4URL: https://datasheet.ciiva.com/8138/max809s-d-8138347.pdf?src-supplier=Avnet; ComponentLink4Description: https://datasheet.ciiva.com/8138/max809s-d-8138347.pdf?src-supplier=Avnet; ComponentLink5URL: https://datasheet.ciiva.com/26073/max809s-d-26073901.pdf?src-supplier=Avnet+Europe; ComponentLink5Description: https://datasheet.ciiva.com/26073/max809s-d-26073901.pdf?src-supplier=Avnet+Europe
footprint SOT-23-3 (SOT23, 3-Leads, Body 2.92x1.3mm, Pitch 0.95mm)
pins: 1 GND, 2 RESET, 3 VCC

## RAC03-05SK
designator U?, comment 5V AC/DC 3W  Supplier Part Number 1: 919-RAC03-05SK
CONN HEADER VERT 5POS 1.5MM; Manufacturer: Recom; Manufacturer Part Number: RAC03-05SK; Description: 3W AC/DC-Converter 'POWERLINE' 3kV reg; Gender: Male; Connector Type: Male Pin; Current Rating: 1A; Number of Positions: 5; Insulation Resistance: 500MR; Contact Resistance: 30mR; Voltage Rating: 50V; Supplier 1: Mouser; RoHS: Yes; Category: Voltage Regulators - Switching; Stock 1: 1214; Pricing 1: 1=6,75000, 10=6,57000, 50=6,00000, 100=5,81000, 1000=5,24000, 10000=5,24000 (USD); Supplier 2: Digi-Key; Stock 2: 124471; Pricing 2: 1=0,26000, 10=0,23900, 100=0,16590, 500=0,14038, 1000=0,11486, 5000=0,10209, 10000=0,09252 (USD); Mount: Through Hole; Contact Material: Brass,Tin; Color: Natural; Contact Plating: Tin,Copper; Housing Material: Polyamide; Housing Color: Beige; Material: Polyamide; Min Operating Temperature: -25°C; Max Operating Temperature: 85°C; Number of Rows: 1; Packaging: Bulk; Termination: Press-Fit; Number of Contacts: 5; Fastening Type: Detent; Orientation: Straight; Max Current Rating: 1A; Max Voltage Rating (AC): 50V; Length: 9mm; Pitch: 1.5mm; Contact Mating Length: 0.094inch; Depth: 3.5mm; Lead Free: Lead Free; ComponentLink1URL: https://datasheet.ciiva.com/26894/getdatasheetpartid-666189-26894482.pdf?src-supplier=Verical; ComponentLink1Description: https://datasheet.ciiva.com/26894/getdatasheetpartid-666189-26894482.pdf?src-supplier=Verical; ComponentLink2URL: https://datasheet.ciiva.com/25616/0900766b81147f94-25616837.pdf?src-supplier=RSComponents; ComponentLink2Description: https://datasheet.ciiva.com/25616/0900766b81147f94-25616837.pdf?src-supplier=RSComponents; ComponentLink3URL: https://datasheet.ciiva.com/11752/0900766b8082f580-11752184.pdf?src-supplier=RSComponents; ComponentLink3Description: https://datasheet.ciiva.com/11752/0900766b8082f580-11752184.pdf?src-supplier=RSComponents; ComponentLink4URL: https://datasheet.ciiva.com/712/ezh-712496.pdf?src-supplier=Digi-Key; ComponentLink4Description: https://datasheet.ciiva.com/712/ezh-712496.pdf?src-supplier=Digi-Key
footprint RAC0305SK
pins: 1 VAC_IN_(L), 2 -VOUT, 3 +VOUT, 4 VAC_IN_(N)

## RAK4260
designator U?, comment LORAWAN MODULE
The RAK4260 LPWAN Module is based on Microchip's ATSAMR34J18B. It is a SiP device integrating a 32-bit ARM Cortex -M0+ MCU with a LoRa Transceiver in a compact surface mount package.
footprint RAK4260
pins: 1 GND, 2 RFC, 3 GND, 4 PA27, 5 PA06, 6 PA07, 7 PA08, 8 PA09, 9 PB22, 10 GND, 11 3V3, 12 3V3, 13 SCL, 14 SDA, 15 PA15, 16 PA14, 17 GND, 18 GND, 19 UART3_TX, 20 UART3_RX, 21 NC, 22 PA23_MOSI, 23 PA22_SS, 24 PA23_SCK, 25 PB02_MISO, 26 PA25_USB_P, 27 PA24_USB_N, 28 GND, 29 RST, 30 PA30_SWCLK, 31 PA31_SWDIO, 32 UART1_TX, 33 UART1_RX, 34 NC, 35 GND, 36 GND, SH

## RC0603FR-0757K6L
designator R?, comment 57.6K 1% 1/10W 0603
RES SMD 57.6K OHM 1% 1/10W 0603; Manufacturer: Yageo; Manufacturer Part Number: RC0603FR-0757K6L; Temperature Coefficient: 100ppm/°C; Resistance: 57.6kR; Voltage Rating (DC): 50V; Power Rating: 100mW; Supplier 1: Mouser; RoHS: Yes; Category: Chip SMD Resistors; Stock 1: 50778; Case/Package: 0603; Contact Plating: Tin,Matte; Case Code (Imperial): 0603; Case Code (Metric): 1608; Min Operating Temperature: -55°C; Max Operating Temperature: 155°C; Resistor Type: Thick Film; Tolerance: 1%; Termination: SMD/SMT; Packaging: Tape and Reel; Voltage Rating: 50V; Length: 1.6mm; Height: 0.45mm; Depth: 0.8mm; Width: 0.8mm; Lead Free: Lead Free; Military Standard: Not; ComponentLink1URL: https://datasheet.ciiva.com/28398/pyu-rc0603-51-rohs-l-4-28398246.pdf?src-supplier=Avnet+Europe; ComponentLink1Description: https://datasheet.ciiva.com/28398/pyu-rc0603-51-rohs-l-4-28398246.pdf?src-supplier=Avnet+Europe; ComponentLink2URL: https://datasheet.ciiva.com/12558/rc0603-272842-12558648.pdf?src-supplier=Mouser; ComponentLink2Description: https://datasheet.ciiva.com/12558/rc0603-272842-12558648.pdf?src-supplier=Mouser; ComponentLink3URL: https://datasheet.ciiva.com/8888/pyu-rc0603-51-rohs-l-4-8888687.pdf?src-supplier=Avnet; ComponentLink3Description: https://datasheet.ciiva.com/8888/pyu-rc0603-51-rohs-l-4-8888687.pdf?src-supplier=Avnet; Supplier Part Number 1: 603-RC0603FR-0757K6L
footprint R 0603/1608
pins: 1, 2

## RK4270 (NO IPEX)
designator RAK?, comment Rak 4270 NO IPEX
footprint RK4270
pins: 1   PA3/UART2_RX, 2 PA2/UART2_TX, 3 PA1, 4 PA9/UART1_TX, 5 PA10/UART1_RX, 6   PA12/UART1_DE, 7   PA13/SWDIO, 8 PA14/SWCLK, 9 I2C_SCL, 10 I2C_SDA, 11 GND, 12 RF, 13 GND, 14 GND, 15 PA11/ANT_SW, 16 PB4, 17 PA8, 18   MCU_NRST, 19   GND, 20 VDD

## RP604K331A-TR
designator U?, comment BUCK/BOOST 3V3  Supplier Part Number 1: 848-RP604K331A-TR
Dcdc Converter Ultra-low Quiesce; Manufacturer: Ricoh; Manufacturer Part Number: RP604K331A-TR; Supplier 1: Mouser; RoHS: No; Category: Voltage Regulators - Switching; Stock 1: 645
footprint SON50P270X300X60-13N
pins: 1 AVIN, 2 CE, 3 PGND_1, 4 PGND_2, 5 AGND, 6 VFB, 7 VOUT, 8 BOLX, 9 PGND_3, 10 PGND_4, 11 BULX, 12 PVIN, 13 GND

## SGP40-D-R4
designator U?, comment Air Quality Sensor  Supplier Part Number 1: 403-SGP40-D-R4
Manufacturer: Sensirion; Manufacturer Part Number: SGP40-D-R4; Supplier 1: Mouser; RoHS: No; Stock 1: 87
footprint SON80P244X244X95-7N
pins: 1 VDD, 2 VSS, 3 SDA, 4 N/A, 5 VDDH, 6 SCL, 7 EP

## SHT31-ARP-B
designator U?, comment Sensor Humedad y Temperatura  Supplier Part Number 1: 403-SHT31-ARP-B
SHT3x Series 5.5 V ±2%RH 0 to 100% Temperature and Humidity Sensor - DFN-8; Manufacturer: Sensirion; Manufacturer Part Number: SHT31-ARP-B; Output Type: Analog Voltage; Accuracy: 2%; Response Time: 8s; Operating Supply Voltage: 3.3V; Min Supply Voltage: 2.4V; Max Supply Voltage: 5.5V; Resolution: 14b; Supplier 1: Mouser; RoHS: Yes; Category: Sensors; Mount: Surface Mount; Case/Package: DFN; Number of Pins: 8; Min Operating Temperature: -40°C; Max Operating Temperature: 125°C; Sensor Type: Temperature; Packaging: Cut Tape; Length: 2.6mm; Height: 1mm; Width: 2.6mm; Lead Free: Lead Free; REACH SVHC: No SVHC; ComponentLink1URL: http://www.farnell.com/datasheets/2616460.pdf?src-supplier=Farnell; ComponentLink1Description: http://www.farnell.com/datasheets/2616460.pdf?src-supplier=Farnell; ComponentLink2URL: https://media.digikey.com/pdf/Data%20Sheets/Sensirion%20PDFs/HT_DS_SHT3x_ARP_V3.pdf?src-supplier=Digi-Key; ComponentLink2Description: https://media.digikey.com/pdf/Data%20Sheets/Sensirion%20PDFs/HT_DS_SHT3x_ARP_V3.pdf?src-supplier=Digi-Key; ComponentLink3URL: https://media.digikey.com/pdf/Data%20Sheets/Sensirion%20PDFs/Infoletter184101SHT3x_ARP_DatasheetUpdate.pdf?src-supplier=Digi-Key; ComponentLink3Description: https://media.digikey.com/pdf/Data%20Sheets/Sensirion%20PDFs/Infoletter184101SHT3x_ARP_DatasheetUpdate.pdf?src-supplier=Digi-Key; ComponentLink4URL: http://www.farnell.com/datasheets/1905460.pdf?src-supplier=Farnell; ComponentLink4Description: http://www.farnell.com/datasheets/1905460.pdf?src-supplier=Farnell; ComponentLink5URL: http://www.farnell.com/datasheets/1905460.pdf?src-supplier=Element14; ComponentLink5Description: http://www.farnell.com/datasheets/1905460.pdf?src-supplier=Element14; ComponentLink6URL: https://www.sensirion.com/fileadmin/user_upload/customers/sensirion/Dokumente/2_Humidity_Sensors/Sensirion_Humidity_Sensors_Testing_Guide_V1.2.pdf?src-supplier=Digi-Key; ComponentLink6Description: https://www.sensirion.com/fileadmin/user_upload/customers/sensirion/Dokumente/2_Humidity_Sensors/Sensirion_Humidity_Sensors_Testing_Guide_V1.2.pdf?src-supplier=Digi-Key
footprint SON50P250X250X100-9N-D
pins: 1 RH, 2 R_1, 3 R_2, 4 T, 5 VDD, 6 NRESET, 7 R_3, 8 VSS, 9 EP

## SHT31-DIS-B
designator U?, comment I2C Sensirion 2% RH 0-100% 0,3C  Supplier Part Number 1: 403-SHT31-DIS-B
SENSOR HUMID/TEMP 5V I2C 2% SMD; Manufacturer Part Number: SHT31-DIS-B; Min Supply Voltage: 2.4V; Max Supply Voltage: 5.5V; Sensor Type: Temperature; Output Type: I2C,Digital; Response Time: 8s; Operating Supply Voltage: 3.3V; Supplier 1: Mouser; Manufacturer: Sensirion; RoHS: Yes; Category: Temperature and Humidity Sensors; Mount: Surface Mount; Case/Package: DFN; Number of Pins: 8; Min Operating Temperature: -40°C; Max Operating Temperature: 125°C; Packaging: Cut Tape; Interface: I2C; Accuracy: 2%; Length: 2.6mm; Height: 1mm; Width: 2.6mm; REACH SVHC: No SVHC; Lead Free: Lead Free; ComponentLink1URL: http://uk.rs-online.com/webdocs/13dd/0900766b813ddc9f.pdf?src-supplier=RSComponents; ComponentLink1Description: http://uk.rs-online.com/webdocs/13dd/0900766b813ddc9f.pdf?src-supplier=RSComponents; ComponentLink2URL: http://www.farnell.com/datasheets/2756487.pdf?src-supplier=Farnell; ComponentLink2Description: http://www.farnell.com/datasheets/2756487.pdf?src-supplier=Farnell; ComponentLink3URL: http://www.farnell.com/datasheets/2646599.pdf?src-supplier=Farnell; ComponentLink3Description: http://www.farnell.com/datasheets/2646599.pdf?src-supplier=Farnell; ComponentLink4URL: http://www.farnell.com/datasheets/1905459.pdf?src-supplier=Element14; ComponentLink4Description: http://www.farnell.com/datasheets/1905459.pdf?src-supplier=Element14; ComponentLink5URL: https://www.sensirion.com/file/datasheet_filter-membrane?src-supplier=Digi-Key; ComponentLink5Description: https://www.sensirion.com/file/datasheet_filter-membrane?src-supplier=Digi-Key
footprint SON50P250X250X100-9N-D
pins: 1 RH, 2 R_1, 3 R_2, 4 T, 5 VDD, 6 NRESET, 7 R_3, 8 VSS, 9 EP

## TPL5110DDCR
designator U?, comment Timmer ON/OFF  Supplier Part Number 1: 595-TPL5110DDCR
IC TIMER MOS DRIVER/PWR ON 6-SOT; Manufacturer 1: Texas Instruments; Manufacturer Part Number 1: TPL5110DDCR; Quiescent Current: 35nA; Max Supply Voltage: 5.5V; Min Supply Voltage: 1.8V; Supplier 1: Mouser; RoHS: Yes; Category: Clock and Timing; Stock 1: 4744; Pricing 1: 1=0,90000, 10=0,73800, 100=0,56000, 250=0,56000, 500=0,47600, 1000=0,38100 (USD); Mount: Surface Mount; Case/Package: SOT-23-6; Weight: 0.00127oz; Min Operating Temperature: -40°C; Max Operating Temperature: 105°C; Packaging: Tape and Reel; Operating Supply Current: 35nA; Package Quantity: 3000; Length: 3.05mm; Height: 1.1mm; Width: 1.75mm; Lead Free: Lead Free; ComponentLink1URL: http://www.ti.com/lit/ds/symlink/tpl5110.pdf?src-supplier=Digi-Key; ComponentLink1Description: http://www.ti.com/lit/ds/symlink/tpl5110.pdf?src-supplier=Digi-Key; ComponentLink2URL: http://www.ti.com/lit/gpn/TPL5110?src-supplier=Mouser; ComponentLink2Description: http://www.ti.com/lit/gpn/TPL5110?src-supplier=Mouser; ComponentLink3URL: http://www.ti.com/general/docs/suppproductinfo.tsp?distId=10&amp;gotoUrl=http%3A%2F%2Fwww.ti.com%2Flit%2Fgpn%2Ftpl5110&src-supplier=Digi-Key; ComponentLink3Description: http://www.ti.com/general/docs/suppproductinfo.tsp?distId=10&amp;gotoUrl=http%3A%2F%2Fwww.ti.com%2Flit%2Fgpn%2Ftpl5110&src-supplier=Digi-Key; ComponentLink4URL: http://www.ti.com/general/docs/lit/getliterature.tsp?genericPartNumber=TPL5110&&fileType=pdf&src-supplier=Avnet; ComponentLink4Description: http://www.ti.com/general/docs/lit/getliterature.tsp?genericPartNumber=TPL5110&&fileType=pdf&src-supplier=Avnet
footprint SOT95P280X110-6N
pins: 1 VDD, 2 GND, 3 DELAY/M_DRV, 4 DONE, 5 DRV, 6 EN/ONE_SHOT

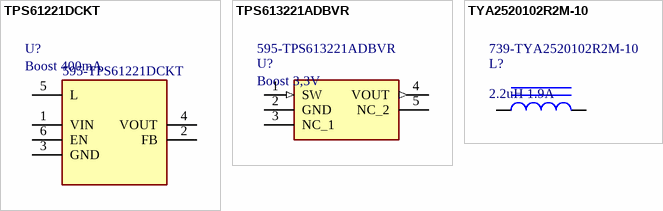
[diagram p1: symbols TPS61221DCKT to TYA2520102R2M-10]

## TPS61221DCKT
designator U?, comment Boost 400mA  Supplier Part Number 1: 595-TPS61221DCKT
TEXAS INSTRUMENTS         TPS61221DCKT             Boost (Step Up) Switching Regulator, Fixed, 700mV-5.5V In, 3.3V And 200mA Out, SC-70-6; Number of Outputs: 1; Efficiency: 95%; Switching Frequency: 2MHz; Max Input Voltage: 5.5V; Min Input Voltage: 700mV; Synchronous Rectifier: Yes; Quiescent Current: 5uA; Supplier 1: Mouser; Manufacturer 1: Texas Instruments; Manufacturer Part Number 1: TPS61221DCKT; RoHS: Yes; Category: Voltage Regulators - Switching; Stock 1: 4045; Pricing 1: 1=1,27000, 10=1,08000, 100=0,82800, 250=0,73200, 500=0,69300, 1000=0,53900 (USD); Case/Package: SC; Number of Pins: 6; Weight: 0.000988oz; Contact Plating: Gold; Min Operating Temperature: -40°C; Max Operating Temperature: 85°C; Packaging: Tape and Reel; Nominal Output Voltage: 3.3V; Output Voltage: 3.3V; Output Current: 200mA; Max Output Current: 400mA; Package Quantity: 1; Min Output Voltage: 3.3V; Max Output Voltage: 3.3V; Topology: Boost; Output Type: Fixed; Frequency: 2MHz; Min Supply Voltage: 700mV; Termination: SMD/SMT; Length: 2.15mm; Height: 1mm; Width: 1.4mm; Radiation Hardening: No; REACH SVHC: No SVHC; Lead Free: Lead Free; ComponentLink1URL: https://datasheet.ciiva.com/2029/tps61221-2029444.pdf?src-supplier=Digi-Key; ComponentLink1Description: https://datasheet.ciiva.com/2029/tps61221-2029444.pdf?src-supplier=Digi-Key; ComponentLink2URL: https://datasheet.ciiva.com/2029/tps61221-2029445.pdf?src-supplier=Digi-Key; ComponentLink2Description: https://datasheet.ciiva.com/2029/tps61221-2029445.pdf?src-supplier=Digi-Key; ComponentLink3URL: https://datasheet.ciiva.com/2029/tps61221-2029446.pdf?src-supplier=Digi-Key; ComponentLink3Description: https://datasheet.ciiva.com/2029/tps61221-2029446.pdf?src-supplier=Digi-Key; ComponentLink4URL: https://datasheet.ciiva.com/26103/tps61222-26103912.pdf?src-supplier=Avnet+Europe; ComponentLink4Description: https://datasheet.ciiva.com/26103/tps61222-26103912.pdf?src-supplier=Avnet+Europe; ComponentLink5URL: https://datasheet.ciiva.com/22708/1874807-22708796.pdf?src-supplier=Element14; ComponentLink5Description: https://datasheet.ciiva.com/22708/1874807-22708796.pdf?src-supplier=Element14; ComponentLink6URL: https://datasheet.ciiva.com/46390/1874807-46390364.pdf?src-supplier=Element14; ComponentLink6Description: https://datasheet.ciiva.com/46390/1874807-46390364.pdf?src-supplier=Element14; ComponentLink7URL: https://datasheet.ciiva.com/3220/tps61222-3220285.pdf?src-supplier=Avnet; ComponentLink7Description: https://datasheet.ciiva.com/3220/tps61222-3220285.pdf?src-supplier=Avnet; ComponentLink8URL: https://datasheet.ciiva.com/3221/tps61222-3221407.pdf?src-supplier=Avnet; ComponentLink8Description: https://datasheet.ciiva.com/3221/tps61222-3221407.pdf?src-supplier=Avnet; ComponentLink9URL: https://datasheet.ciiva.com/28671/1874807-28671231.pdf?src-supplier=Element14; ComponentLink9Description: https://datasheet.ciiva.com/28671/1874807-28671231.pdf?src-supplier=Element14
footprint SOT65P210X110-6N
pins: 1 VIN, 2 FB, 3 GND, 4 VOUT, 5 L, 6 EN

## TPS613221ADBVR
designator U?, comment Boost 3,3V  Supplier Part Number 1: 595-TPS613221ADBVR
FG OF TPS613221ADBV; Manufacturer 1: Texas Instruments; Manufacturer Part Number 1: TPS613221ADBVR; Output Type: Fixed; Output Configuration: Positive; Number of Outputs: 1; Min Input Voltage: 900mV; Max Input Voltage: 5.5V; Min Output Voltage: 3.3V; Output Current: 1.6A; Switching Frequency: 2MHz; Synchronous Rectifier: Yes; Supplier 1: Mouser; RoHS: No; Category: Voltage Regulators - Switching; Stock 1: 10738; Pricing 1: 1=0,92000, 10=0,76300, 100=0,57900, 250=0,49200, 500=0,46800, 1000=0,35700 (USD); Mount: Surface Mount; Case/Package: SOT-23-5; Min Operating Temperature: -40°C; Max Operating Temperature: 85°C; Topology: Boost; Packaging: Tape and Reel; ComponentLink1URL: http://www.ti.com/lit/gpn/tps61322?src-supplier=Digi-Key; ComponentLink1Description: http://www.ti.com/lit/gpn/tps61322?src-supplier=Digi-Key
footprint SOT95P280X145-5N
pins: 1 SW (in), 2 GND (power), 3 NC_1, 4 VOUT (out), 5 NC_2

## TYA2520102R2M-10
designator L?, comment 2.2uH 1.9A  Supplier Part Number 1: 739-TYA2520102R2M-10
Inductores fijos 2.2uH 1.9A 20% Wire Wound; Manufacturer: Laird; Manufacturer Part Number: TYA2520102R2M-10; Supplier 1: Mouser; RoHS: No; Stock 1: 6663
footprint TYA2520102R2M10
pins: 1, 2